# EAGLE library part TPS54202DDCR (library TPS54202DDCR)
4.5V to 28V Input, 2A Output, EMI Friendly Synchronous Step-Down Converter Source: Datasheet <http://www.ti.com/lit/gpn/tps54202>
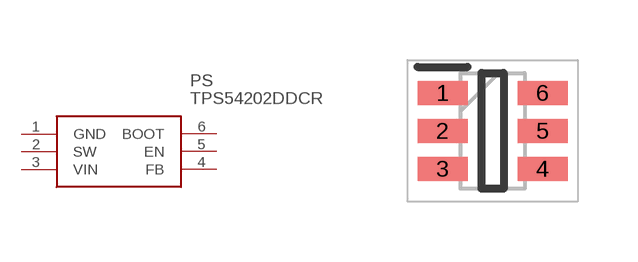
[diagram p0: symbol with the pads of SOT95P280X110-6N; footprint SOT95P280X110-6N]

Designator prefix PS

## TPS54202DDCR (Arrow_Part_Number: TPS54202DDCR; Arrow_Price-Stock: https://www.arrow.com/en/products/tps54202ddcr/texas-instruments?utm_currency=USD&region=nac; Description: 4.5V to 28V Input, 2A Output, EMI Friendly Synchronous Step-Down Converter; Height: 1.1mm; Manufacturer_Name: Texas Instruments; Manufacturer_Part_Number: TPS54202DDCR; Mouser_Part_Number: 595-TPS54202DDCR; Mouser_Price-Stock: https://www.mouser.co.uk/ProductDetail/Texas-Instruments/TPS54202DDCR?qs=uP22XH7NdCsJtN%2Fq54jCtQ%3D%3D)  [SOT95P280X110-6N]
1  GND  pwr
2  SW  out
3  VIN  pwr
4  FB  in
5  EN  in
6  BOOT  out

## Footprint SOT95P280X110-6N (pad centres in mm)
TPS54202DDCT
smd 1.25 x 0.6: 1 -1.25,0.95; 2 -1.25,0; 3 -1.25,-0.95; 4 1.25,-0.95; 5 1.25,0; 6 1.25,0.95